# Altium footprint library Adams Altium Library.PcbLib: 250 footprints (part 15 of 16)
Each footprint in its own frame and in the unit in brackets; x right, y up, seen from the top. Pads: shape width x height; smd on the part's side, far side on the other; paste and mask are expansions set on the pad; w line width, h text height; cw(c..) or ccw(c..) is an arc to the next point about the centre after c.
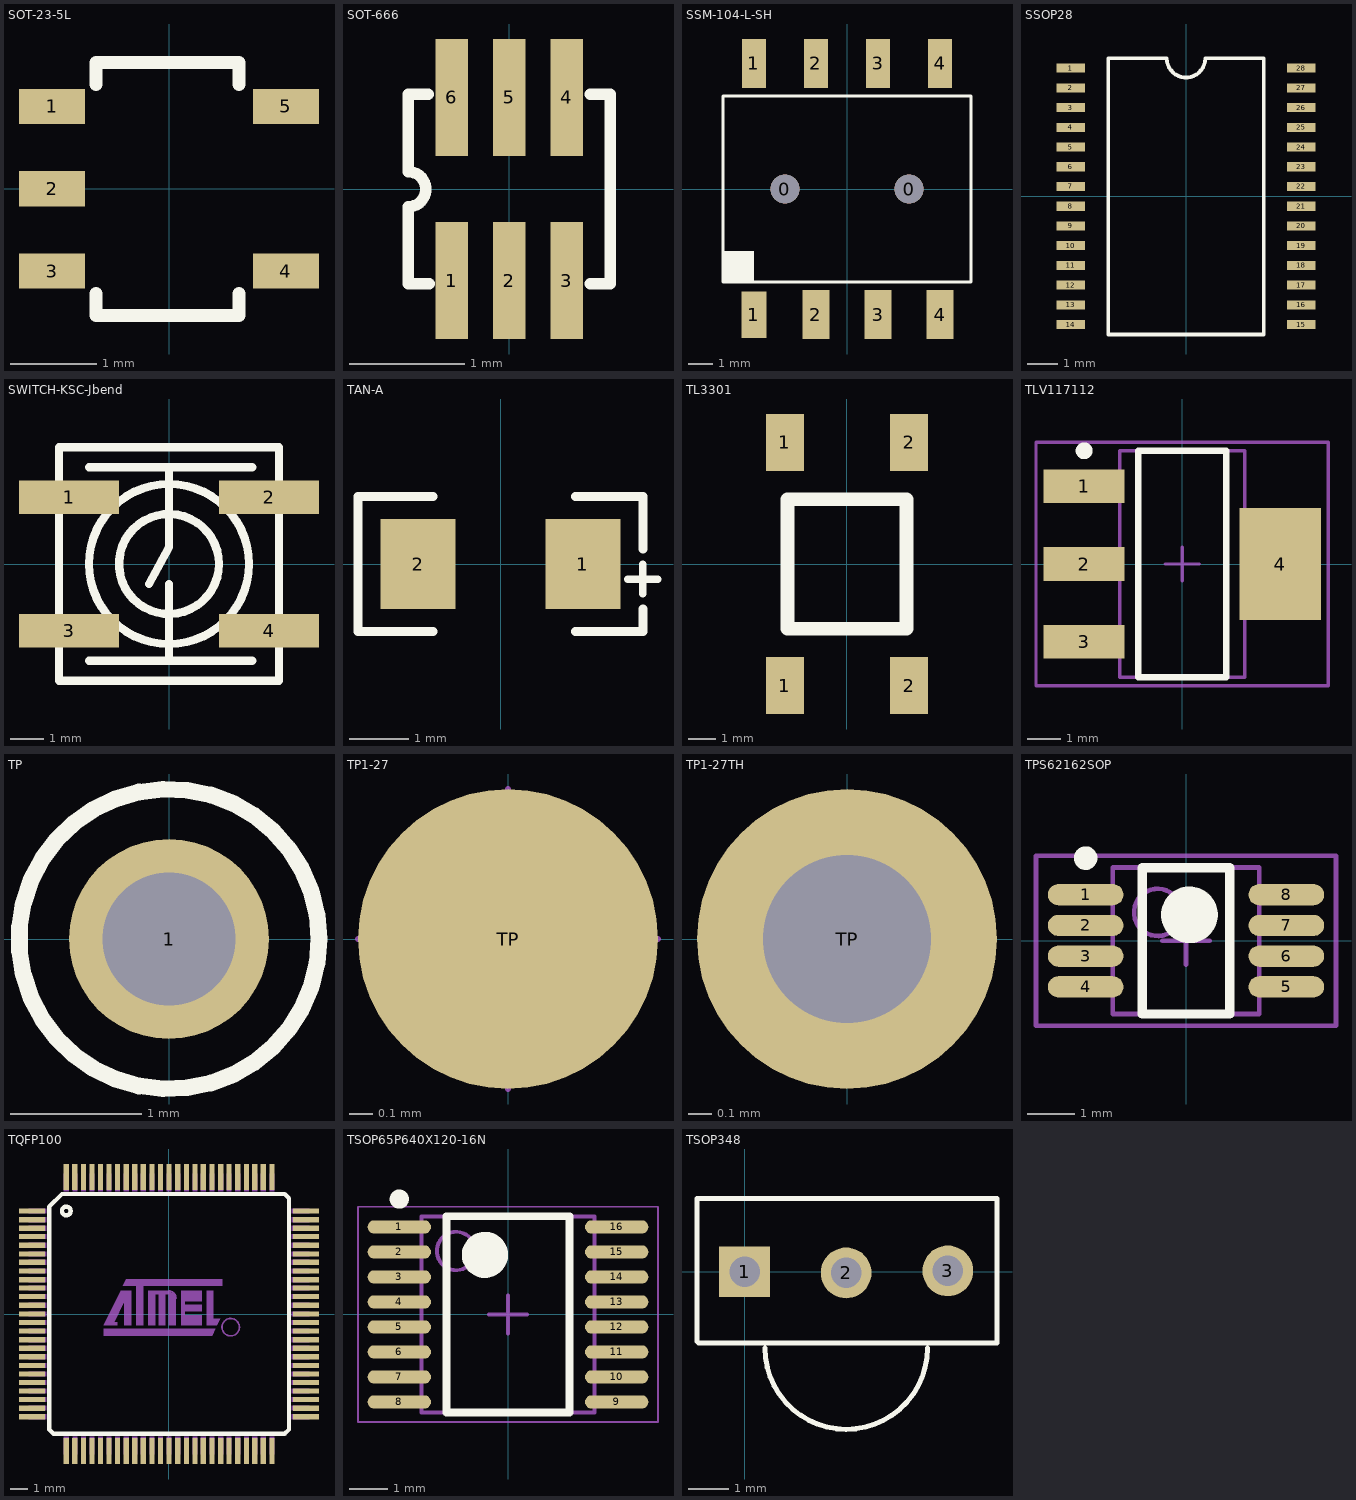
[diagram p14: the footprints below, top view; thin cyan lines are the x and y axes]

## SOT-23-5L [mil]
pads (5):
  rect 30x16 smd: 1(-53.15,37.4) 2(-53.15,0) 3(-53.15,-37.4) 4(53.15,-37.4) 5(53.15,37.4)
Top Overlay:
  lines w6: -33.15,-47.6 -33.15,-57.6 31.85,-57.6 31.85,-47.6 ; -33.15,47.4 -33.15,57.4 31.85,57.4 31.85,47.4

## SOT-666 [mil]
pads (6):
  rect 11x40 smd: 1(-19.68,-31.3) 2(0,-31.3) 3(19.68,-31.3) 4(19.68,31.3) 5(0,31.3) 6(-19.68,31.3)
Top Overlay:
  lines w3.94: -27.68,32.32 -34.53,32.32 -34.53,5.92 cw(c-34.53,-0.08) -34.53,-6.08 -34.53,-32.32 -27.32,-32.32 ; 27.68,-32.32 34.53,-32.32 34.53,32.32 27.68,32.32

## SSM-104-L-SH [mm]
pads (10):
  round 1.2 hole 1.2 unplated: 0(-2.54,0) 0(2.54,0)
  rect 1.016x1.905 smd: 1(-3.81,-5.143)
  rect 1x2 smd: 1(-3.81,5.143) 2(-1.27,5.143) 3(1.27,5.143) 4(3.81,5.143)
  rect 1.1x2 smd: 2(-1.27,-5.143) 3(1.27,-5.143) 4(3.81,-5.143)
Top Overlay:
  rectangle: -5.08,-3.81 -3.81,-2.54
  lines w0.127: -5.08,-3.81 -5.08,3.81 5.08,3.81 5.08,-3.81 -5.08,-3.81

## SSOP28 [mm]
pads (28):
  rect 0.95x0.3 smd: 1(-3.8,4.225) 2(-3.8,3.575) 3(-3.8,2.925) 4(-3.8,2.275) 5(-3.8,1.625) 6(-3.8,0.975) 7(-3.8,0.325) 8(-3.8,-0.325) 9(-3.8,-0.975) 10(-3.8,-1.625) 11(-3.8,-2.275) 12(-3.8,-2.925) 13(-3.8,-3.575) 14(-3.8,-4.225) 15(3.8,-4.225) 16(3.8,-3.575) 17(3.8,-2.925) 18(3.8,-2.275) 19(3.8,-1.625) 20(3.8,-0.975) 21(3.8,-0.325) 22(3.8,0.325) 23(3.8,0.975) 24(3.8,1.625) 25(3.8,2.275) 26(3.8,2.925) 27(3.8,3.575) 28(3.8,4.225)
Top Overlay:
  lines w0.127: -2.563,-4.55 -2.563,4.55 -0.635,4.55 ccw(c0,4.55) 0.635,4.55 2.563,4.55 2.563,-4.55 -2.563,-4.55

## SWITCH-KSC-Jbend [mm]
pads (4):
  rect 3x1 smd: 1(-3,2) 2(3,2) 3(-3,-2) 4(3,-2)
Top Overlay:
  circle w0.254: c0,0 r1.5
  circle w0.254: c0,0 r2.4
  lines w0.254: -2.4,-2.9 2.5,-2.9 ; -2.4,2.9 2.5,2.9 ; -0.6,-0.6 0,0.5 0,2.9 ; 0,-0.6 0,-2.9 0.1,-2.9 ; -3.3,-3.5 -3.3,3.5 3.3,3.5 3.3,-3.5 -3.3,-3.5
3D body: height 4.6, standoff 0, extent -2.411,-2.411 2.411,2.411
3D body: height 2.9, standoff 0, extent -3.427,-3.627 3.427,3.627
3D body: height 7.9, standoff 0, extent -1.507,-1.507 1.507,1.507

## TAN-A [mil]
pads (2):
  rect 50x60 smd: 1(55,0) 2(-55,0)
Top Overlay:
  lines w5: 85,-10 105,-10 ; 95,-20 95,0
  lines w6: -45,-45 -95,-45 -95,45 -45,45 ; 50,-45 95,-45 95,-30 ; 50,45 95,45 95,10

## TD_VLF3012S-74 [mm] "2.2uH Inductor for Switching DCDC"
height 1.5

## TL3301 [mm]
pads (4):
  rect 1.4x2.1 smd: 1(-2.3,-4.5) 1(-2.3,4.5) 2(2.3,-4.5) 2(2.3,4.5)
Top Overlay:
  lines w0.508: -2.2,-2.4 2.2,-2.4 2.2,2.4 0,2.4 -2.2,2.4 -2.2,-2.4

## TLV117112 [mm] "SOT223, 4-Leads, Body 6.7x7.3mm (max), Pitch 2.30mm, IPC Medium Density"
height 1.8
pads (4):
  rect 2.4x1 smd: 1(-2.9,2.3) 2(-2.9,0) 3(-2.9,-2.3)
  rect 2.4x3.3 smd: 4(2.9,0)
Top Overlay:
  circle w0.25: c-2.9,3.35 r0.125
  lines w0.2: -1.3,-3.35 -1.3,3.35 1.3,3.35 1.3,-3.35 -1.3,-3.35
Mechanical 13:
  lines w0.1: -1.85,-3.35 -1.85,3.35 1.85,3.35 1.85,-3.35 -1.85,-3.35
Mechanical 15:
  lines w0.1: -0.5,0 0.5,0 ; 0,-0.5 0,0.5 ; -4.325,-3.6 -4.325,3.6 4.325,3.6 4.325,-3.6 -4.325,-3.6
3D body: height 1.8, standoff 0.02, extent -1.85,-3.35 1.85,3.35

## TP [mil]
pads (1):
  round 60 hole 40: 1(0,0)
Top Overlay:
  circle w5: c0,0 r45

## TP1-27 [mm]
pads (1):
  rrect100% 1.27x1.27 smd: TP(0,0)
Mechanical 16:
  lines w0.025: -0.635,0 0.635,0 ; 0,-0.635 0,0.635
3D body: height 0.01, standoff 0, extent -0.635,-0.639 0.64,0.639

## TP1-27TH [mil]
pads (1):
  round 50 hole 28: TP(0,0)
3D body: height 0.39, standoff 0, extent -24.8,-24.94 25.01,24.96

## TPS62162SOP [mm] "SOP 8 pin package"
height 1.1
pads (8):
  oval 1.6x0.45 smd: 1(-2.125,0.975) 2(-2.125,0.325) 3(-2.125,-0.325) 4(-2.125,-0.975) 5(2.125,-0.975) 6(2.125,-0.325) 7(2.125,0.325) 8(2.125,0.975)
Top Overlay:
  circle w0.25: c-2.125,1.75 r0.125
  circle w0.6: c0.075,0.55 r0.3
  lines w0.2: -0.925,-1.55 -0.925,1.55 0.925,1.55 0.925,-1.55 -0.925,-1.55
Mechanical 13:
  circle w0.1: c-0.6,0.6 r0.5
  lines w0.1: -1.55,-1.55 -1.55,1.55 1.55,1.55 1.55,-1.55 -1.55,-1.55
Mechanical 15:
  lines w0.1: -0.5,0 0.5,0 ; 0,-0.5 0,0.5 ; -3.175,-1.8 -3.175,1.8 3.175,1.8 3.175,-1.8 -3.175,-1.8
3D body: height 1.1, standoff 0.23, extent -1.55,-1.55 1.55,1.55

## TQFP100 [mil]
pads (100):
  rect 60x12 smd: 1(-314.96,237) 2(-314.96,217) 3(-314.96,197) 4(-314.96,178) 5(-314.96,158) 6(-314.96,138) 7(-314.96,119) 8(-314.96,99) 9(-314.96,79) 10(-314.96,60) 11(-314.96,40) 12(-314.96,20) 13(-314.96,0) 14(-314.96,-19.68) 15(-314.96,-39.37) 16(-314.96,-59.06) 17(-314.96,-78.74) 18(-314.96,-98.43) 19(-314.96,-118.11) 20(-314.96,-137.8) 21(-314.96,-157.48) 22(-314.96,-177.17) 23(-314.96,-196.85) 24(-314.96,-216.54) 25(-314.96,-236.22) 51(315,-236.22) 52(315,-216.54) 53(315,-196.85) 54(315,-177.17) 55(315,-157.48) 56(315,-137.8) 57(315,-118.11) 58(315,-98.43) 59(315,-78.74) 60(315,-59.06) 61(315,-39.37) 62(315,-19.68) 63(315,0) 64(315,20) 65(315,40) 66(315,60) 67(315,79) 68(315,99) 69(315,119) 70(315,138) 71(315,158) 72(315,178) 73(315,197) 74(315,217) 75(315,237)
  rect 12x60 smd: 26(-236.22,-314.96) 27(-216.54,-314.96) 28(-196.85,-314.96) 29(-177.17,-314.96) 30(-157.48,-314.96) 31(-137.8,-314.96) 32(-118.11,-314.96) 33(-98.43,-314.96) 34(-78.74,-314.96) 35(-59.06,-314.96) 36(-39.37,-314.96) 37(-19.69,-314.96) 38(0,-314.96) 39(20,-314.96) 40(40,-314.96) 41(60,-314.96) 42(79,-314.96) 43(99,-314.96) 44(119,-314.96) 45(138,-314.96) 46(158,-314.96) 47(178,-314.96) 48(197,-314.96) 49(217,-314.96) 50(237,-314.96) 76(237,315) 77(217,315) 78(197,315) 79(178,315) 80(158,315) 81(138,315) 82(119,315) 83(99,315) 84(79,315) 85(60,315) 86(40,315) 87(20,315) 88(0,315) 89(-19.69,315) 90(-39.37,315) 91(-59.06,315) 92(-78.74,315) 93(-98.43,315) 94(-118.11,315) 95(-137.8,315) 96(-157.48,315) 97(-177.17,315) 98(-196.85,315) 99(-216.54,315) 100(-236.22,315)
Top Overlay:
  circle w10: c-236.22,237 r10
  lines w10: -275.59,-265.75 -275.59,247 -246.06,276 266,276 276,266 276,-265.75 266,-275.59 -265.75,-275.59 -275.59,-265.75
Mechanical 16:
  drawing of 108 lines, arcs and shapes, not listed
  text "R" at 134,-42.13 h37.2
  text "TQFP 100" at -110.63,-97.64 h49.6
3D body: height 47.24, standoff 0, extent -280.59,-280.59 281,281

## TSOP65P640X120-16N [mm] "TSOP, 16-Leads, Body 5.00x4.40mm, Pitch 0.65mm, IPC Medium Density"
height 1.2
pads (16):
  oval 1.65x0.35 smd: 1(-2.825,2.275) 2(-2.825,1.625) 3(-2.825,0.975) 4(-2.825,0.325) 5(-2.825,-0.325) 6(-2.825,-0.975) 7(-2.825,-1.625) 8(-2.825,-2.275) 9(2.825,-2.275) 10(2.825,-1.625) 11(2.825,-0.975) 12(2.825,-0.325) 13(2.825,0.325) 14(2.825,0.975) 15(2.825,1.625) 16(2.825,2.275)
Top Overlay:
  circle w0.25: c-2.825,3 r0.125
  circle w0.6: c-0.6,1.55 r0.3
  lines w0.2: -1.6,-2.55 -1.6,2.55 1.6,2.55 1.6,-2.55 -1.6,-2.55
Mechanical 13:
  circle w0.1: c-1.35,1.65 r0.5
  lines w0.1: -2.25,-2.55 -2.25,2.55 2.25,2.55 2.25,-2.55 -2.25,-2.55
Mechanical 15:
  lines w0.05: -3.9,-2.8 -3.9,2.8 3.9,2.8 3.9,-2.8 -3.9,-2.8
  lines w0.1: -0.5,0 0.5,0 ; 0,-0.5 0,0.5
3D body: height 1.2, standoff 0.05, extent -2.25,-2.55 2.25,2.55

## TSOP348 [mil]
pads (3):
  rect 50x50 hole 30: 1(0,0)
  round 50 hole 30: 2(100,-1) 3(200,1)
Top Overlay:
  lines w5: -46.85,-68.58 -46.85,72 51.57,72 ; -45.42,-70 53,-70 ; 20,-75 ccw(c100,-75) 180,-75 ; 51.51,-70 149.94,-70 ; 51.58,72 150,72 248.43,72 248.42,-70 ; 148.09,-70 246.51,-70